# EAGLE library part 48037-0001 (library 48037-0001)
USB Type A Plug Through Hole Right Angle Molex Male 1 Port Right Angle Through Hole Type A USB Connector, 150 V ac, 1.5A 48037 Source: Datasheet <https://www.molex.com/pdm_docs/sd/480370001_sd.pdf>
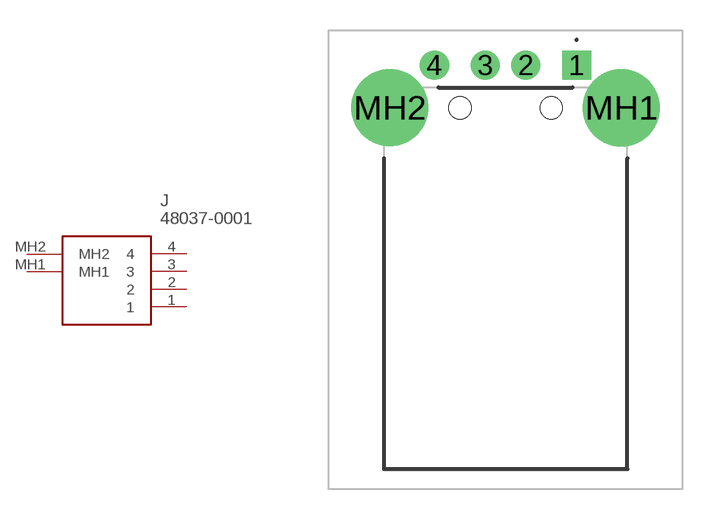
[diagram p0: symbol with the pads of 480370001; footprint 480370001]

Designator prefix J

## 48037-0001 (Description: USB Type A Plug Through Hole Right Angle Molex Male 1 Port Right Angle Through Hole Type A USB Connector, 150 V ac, 1.5A 48037; Height: 4.6mm; Manufacturer_Name: Molex; Manufacturer_Part_Number: 48037-0001; Mouser_Part_Number: 538-48037-0001; Mouser_Price-Stock: https://www.mouser.co.uk/ProductDetail/Molex/48037-0001?qs=c2CV6XM0Dwe0COJj0e1fzg%3D%3D)  [480370001]
1  1
2  2
3  3
4  4
MH1  MH1
MH2  MH2

## Footprint 480370001 (pad centres in mm)
48037-0001-5
drill 0.92 pad 1.3 square: 1 0,0
drill 0.92 pad 1.431: 2 -2.5,0; 3 -4.5,0; 4 -7,0
drill 2.79 pad 3.8: MH1 2.2,-2.1
drill 2.69 pad 3.8: MH2 -9.2,-2.1
hole 1.1 at -1.25,-2.1
hole 1.1 at -5.75,-2.1